# Altium integrated library FC68125.IntLib: 1 symbol
Pins are listed as number, name and electrical type; pins without a type are passive.

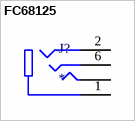
[diagram p0: symbol FC68125]

## FC68125
designator J?
RS PRO 3.5 mm PCB Mount Composite Video Jack Socket, 4Pole; MF: RS Pro; MP: FC68125; Purchase-URL: https://pricing.snapeda.com/search/part/FC68125/?ref=eda; SnapEDA_Link: https://www.snapeda.com/parts/FC68125/RS+Pro/view-part/?ref=snap; Package: None; Price: None; Availability: In Stock; Check_prices: https://www.snapeda.com/parts/FC68125/RS+Pro/view-part/?ref=eda; Value: *
footprint CLIFF_FC68125
pins: 1 1S, 2 6SR, 3_1 3T, 3_2 3T, 6 2R